# Altium footprint library ADC10080_EVALUATION_BOARD.PcbLib: 8 footprints
Each footprint in its own frame and in the unit in brackets; x right, y up, seen from the top. Pads: shape width x height; smd on the part's side, far side on the other; paste and mask are expansions set on the pad; w line width, h text height; cw(c..) or ccw(c..) is an arc to the next point about the centre after c.
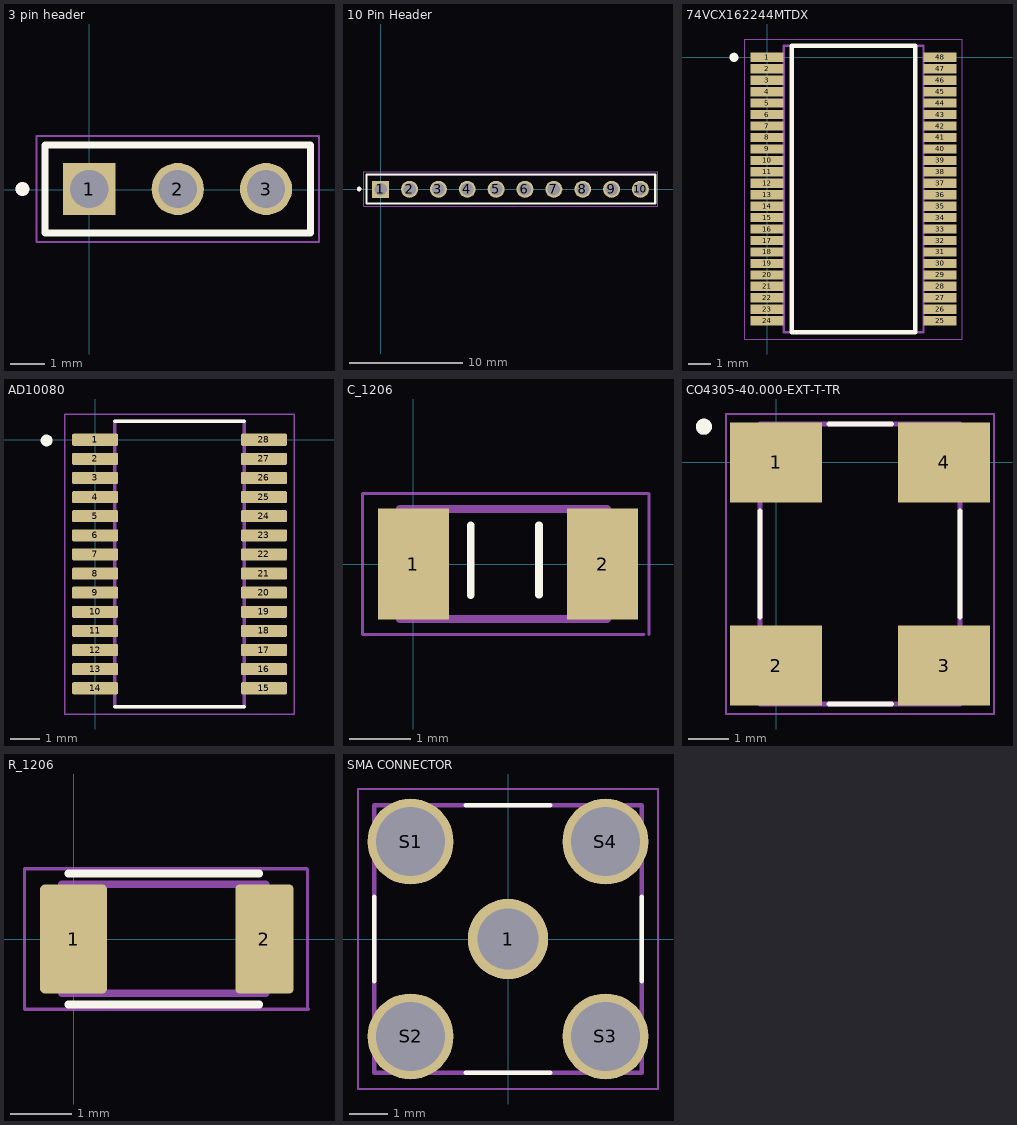
[diagram p0: the footprints below, top view; thin cyan lines are the x and y axes]

## 3 pin header [mm]
pads (3):
  rect 1.5x1.5 hole 1.1: 1(0,0.025)
  round 1.5 hole 1.1: 2(2.54,0.025) 3(5.08,0.025)
Top Overlay:
  circle w0.2: c-1.92,0.025 r0.1
  lines w0.2: -1.27,-1.245 -1.27,1.295 6.35,1.295 6.35,-1.245 -1.27,-1.245
Mechanical 13:
  circle w0.2: c-1.92,0.025 r0.1
  lines w0.1: -1.27,-1.245 -1.27,1.295 ; -1.27,-1.245 6.35,-1.245 ; -1.27,-1.245 -1.27,1.295 ; -1.27,1.295 6.35,1.295 ; -1.27,1.295 6.35,1.295 ; 6.35,-1.245 6.35,1.295 ; 6.35,-1.245 6.35,1.295
Mechanical 15:
  lines w0.05: -1.52,-1.495 -1.52,1.545 6.6,1.545 6.6,-1.495 -1.52,-1.495

## 10 Pin Header [mm]
pads (10):
  rect 1.5x1.5 hole 1.1: 1(0,0)
  round 1.5 hole 1.1: 2(2.54,0) 3(5.08,0) 4(7.62,0) 5(10.16,0) 6(12.7,0) 7(15.24,0) 8(17.78,0) 9(20.32,0) 10(22.86,0)
Top Overlay:
  circle w0.2: c-1.895,0.025 r0.1
  lines w0.2: -1.245,-1.245 -1.245,1.295 24.155,1.295 24.155,-1.245 -1.245,-1.245
Mechanical 13:
  circle w0.2: c-1.895,0.025 r0.1
  lines w0.1: -1.245,-1.245 -1.245,1.295 ; -1.245,-1.245 24.155,-1.245 ; -1.245,-1.245 -1.245,1.295 ; -1.245,1.295 24.155,1.295 ; -1.245,1.295 24.155,1.295 ; 24.155,-1.245 24.155,1.295 ; 24.155,-1.245 24.155,1.295
Mechanical 15:
  lines w0.05: -1.495,-1.495 -1.495,1.545 24.405,1.545 24.405,-1.495 -1.495,-1.495

## 74VCX162244MTDX [mm]
pads (48):
  rect 1.45x0.4 smd: 1(0,0) 2(0,-0.5) 3(0,-1) 4(0,-1.5) 5(0,-2) 6(0,-2.5) 7(0,-3) 8(0,-3.5) 9(0,-4) 10(0,-4.5) 11(0,-5) 12(0,-5.5) 13(0,-6) 14(0,-6.5) 15(0,-7) 16(0,-7.5) 17(0,-8) 18(0,-8.5) 19(0,-9) 20(0,-9.5) 21(0,-10) 22(0,-10.5) 23(0,-11) 24(0,-11.5) 25(7.55,-11.5) 26(7.55,-11) 27(7.55,-10.5) 28(7.55,-10) 29(7.55,-9.5) 30(7.55,-9) 31(7.55,-8.5) 32(7.55,-8) 33(7.55,-7.5) 34(7.55,-7) 35(7.55,-6.5) 36(7.55,-6) 37(7.55,-5.5) 38(7.55,-5) 39(7.55,-4.5) 40(7.55,-4) 41(7.55,-3.5) 42(7.55,-3) 43(7.55,-2.5) 44(7.55,-2) 45(7.55,-1.5) 46(7.55,-1) 47(7.55,-0.5) 48(7.55,0)
Top Overlay:
  circle w0.2: c-1.448,0 r0.1
  lines w0.2: 1.075,-12 6.475,-12 6.475,0.5 1.075,0.5 1.075,-12
Mechanical 15:
  lines w0.1: 0.725,-12 6.825,-12 6.825,0.5 0.725,0.5 0.725,-12
Mechanical 20:
  lines w0.05: -0.975,-12.3 8.525,-12.3 8.525,0.8 -0.975,0.8 -0.975,-12.3
3D body "TSSOP48_6P1X12P5_ONS.step": height 1.2, standoff 0, extent -0.406,-12.065 7.694,0.533

## AD10080 [mm]
pads (28):
  rrect25% 1.57x0.41 smd: 1(0,0) 2(0,-0.65) 3(0,-1.3) 4(0,-1.95) 5(0,-2.6) 6(0,-3.25) 7(0,-3.9) 8(0,-4.55) 9(0,-5.2) 10(0,-5.85) 11(0,-6.5) 12(0,-7.15) 13(0,-7.8) 14(0,-8.45) 15(5.74,-8.45) 16(5.74,-7.8) 17(5.74,-7.15) 18(5.74,-6.5) 19(5.74,-5.85) 20(5.74,-5.2) 21(5.74,-4.55) 22(5.74,-3.9) 23(5.74,-3.25) 24(5.74,-2.6) 25(5.74,-1.95) 26(5.74,-1.3) 27(5.74,-0.65) 28(5.74,0)
Top Overlay:
  circle w0.2: c-1.651,-0.025 r0.1
  lines w0.127: 0.67,-9.075 5.07,-9.075 ; 0.67,0.625 5.07,0.625
Mechanical 13:
  lines w0.127: 0.67,-9.075 0.67,0.625 5.07,0.625 5.07,-9.075 0.67,-9.075
Mechanical 15:
  lines w0.05: -1.035,-9.325 -1.035,0.875 6.775,0.875 6.775,-9.325 -1.035,-9.325
3D body "MTC28.step": height 1.09, standoff 0, extent -0.482,-9.169 5.918,0.635

## C_1206 [mm]
pads (2):
  rect 1.16x1.82 smd: 1(0,0) 2(3.1,0)
Top Overlay:
  lines w0.127: 0.94,-0.508 0.94,0.632 ; 2.057,-0.505 2.057,0.635
Mechanical 13:
  lines w0.127: -0.225,-0.9 3.175,-0.9 3.175,0.9 -0.225,0.9 -0.225,-0.9
Mechanical 15:
  lines w0.05: 3.783,-1.158 -0.833,-1.158 -0.833,1.158 3.835,1.158 ; 3.859,-1.158 3.859,-1.013 3.859,-0.724 3.859,-0.579 3.859,0.579 3.859,1.158
3D body "ERJ-U08J274V.STEP": height 0.6, standoff 0, extent -0.152,-0.698 3.048,0.902

## CO4305-40.000-EXT-T-TR [mm]
pads (4):
  rect 2.3x2 smd: 1(0,0) 2(0,-5.08) 3(4.2,-5.08) 4(4.2,0)
Top Overlay:
  circle w0.2: c-1.805,0.892 r0.1
  lines w0.127: -0.4,-3.86 -0.4,-1.22 ; 1.32,-6.04 2.88,-6.04 ; 1.32,0.96 2.88,0.96 ; 4.6,-3.86 4.6,-1.22
Mechanical 13:
  circle w0.2: c-1.805,0.892 r0.1
  lines w0.127: -0.4,-6.04 4.6,-6.04 4.6,0.96 -0.4,0.96 -0.4,-6.04
Mechanical 15:
  lines w0.05: -1.25,-6.29 5.45,-6.29 5.45,1.21 -1.25,1.21 -1.25,-6.29

## R_1206 [mm]
pads (2):
  rrect14% 1.09x1.77 smd: 1(0,0)
  rrect14% 0.94x1.77 smd: 2(3.1,0)
Top Overlay:
  lines w0.127: -0.085,-1.065 3.015,-1.065 ; -0.085,1.065 3.015,1.065
Mechanical 13:
  lines w0.127: -0.185,-0.88 -0.185,0.889 3.115,0.889 3.115,-0.88 -0.185,-0.88
Mechanical 15:
  lines w0.05: 3.801,-1.14 3.801,-0.57 3.801,0.57 3.801,1.126 3.788,1.14 -0.795,1.14 -0.795,-1.14 3.81,-1.14
3D body "ERJ-U08J274V.STEP": height 0.6, standoff 0, extent 0.026,-0.749 3.226,0.851

## SMA CONNECTOR [mm]
pads (5):
  round 2.1 hole 1.6: 1(0,0)
  round 2.25 hole 1.8: S1(-2.55,2.55) S2(-2.55,-2.55) S3(2.55,-2.55) S4(2.55,2.55)
Top Overlay:
  lines w0.127: -3.5,-1.105 -3.5,1.105 ; -1.105,-3.5 1.105,-3.5 ; -1.105,3.5 1.105,3.5 ; 3.5,-1.105 3.5,1.105
Mechanical 13:
  lines w0.127: -3.5,-3.5 3.5,-3.5 3.5,3.5 -3.5,3.5 -3.5,-3.5
Mechanical 15:
  lines w0.05: -3.925,-3.925 3.925,-3.925 3.925,3.925 -3.925,3.925 -3.925,-3.925
3D body "step_temp.STEP": height 9.78, standoff -3.81, extent -3.505,-3.505 3.505,3.505